# Altium footprint library aPassive.PcbLib: 212 footprints (part 6 of 14)
Each footprint in its own frame and in the unit in brackets; x right, y up, seen from the top. Pads: shape width x height; smd on the part's side, far side on the other; paste and mask are expansions set on the pad; w line width, h text height; cw(c..) or ccw(c..) is an arc to the next point about the centre after c.
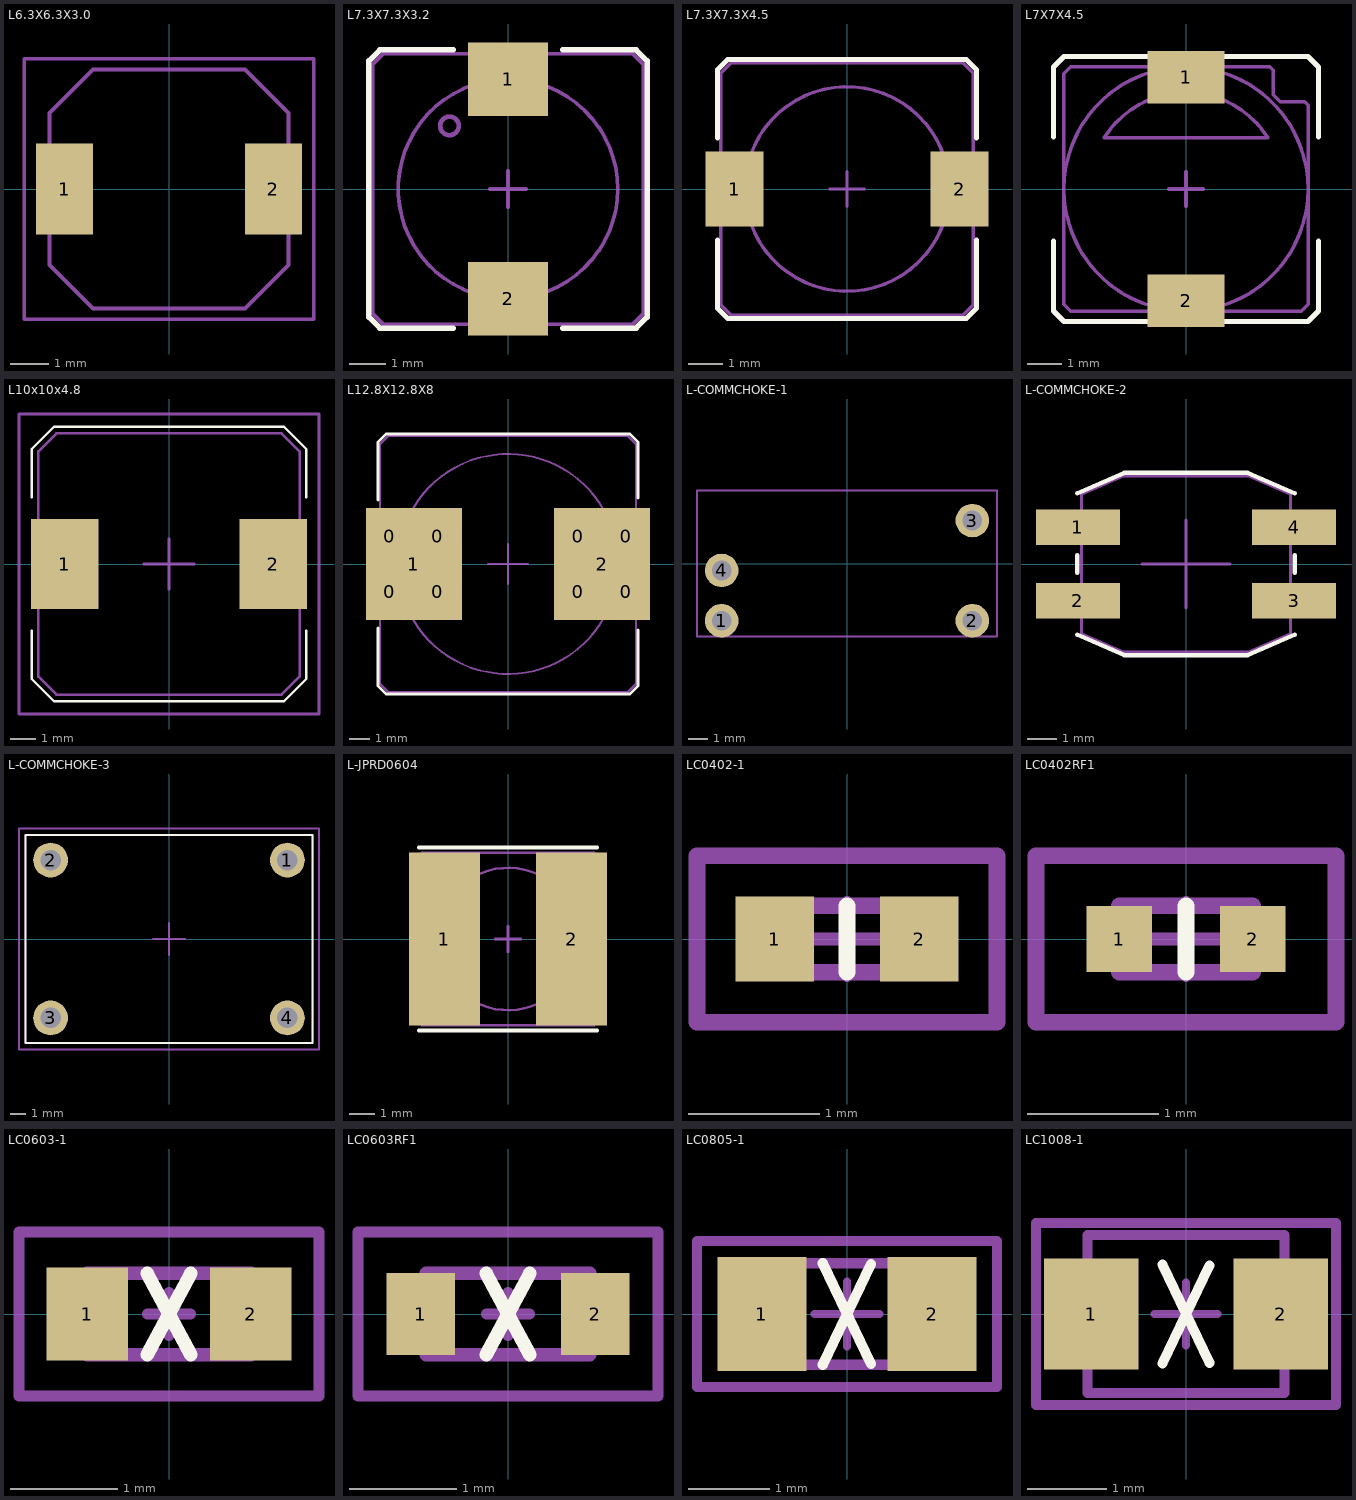
[diagram p5: the footprints below, top view; thin cyan lines are the x and y axes]

## L6.3X6.3X3.0 [mm] "SMD inductor 6.3x6.3x3.0mm shielded"
height 3
pads (2):
  rect 1.5x2.4 smd: 1(-2.75,0) 2(2.75,0)
Mechanical 13:
  lines w0.102: -3.15,-2 -3.15,2 -2,3.15 2,3.15 3.15,2 3.15,-2 2,-3.15 -2,-3.15 -3.15,-2
Mechanical 15:
  lines w0.102: -3.81,-3.429 -3.81,3.429 3.81,3.429 3.81,-3.429 -3.81,-3.429
3D body: height 2.8, standoff 0, extent -3.15,-3.15 3.15,3.15
3D body: height 3, standoff 2.8, extent -2.159,-2.159 2.224,2.232

## L7.3X7.3X3.2 [mm] "SMD inductor 7.3x7.3x3.2mm shielded"
height 3.2
pads (2):
  rect 2.2x2 smd: 1(0,3) 2(0,-3)
Top Overlay:
  lines w0.15: -1.5,-3.8 -3.5,-3.8 -3.8,-3.5 -3.8,3.5 -3.5,3.8 -1.5,3.8 ; 1.5,-3.8 3.5,-3.8 3.8,-3.5 3.8,3.5 3.5,3.8 1.5,3.8
Mechanical 13:
  circle w0.127: c-1.6,1.725 r0.254
  circle w0.1: c0,0 r3
  lines w0.102: -3.7,-3.4 -3.4,-3.7 3.4,-3.7 3.7,-3.4 3.7,3.4 3.4,3.7 -3.4,3.7 -3.7,3.4 -3.7,-3.4
Mechanical 15:
  lines w0.102: -0.5,0 0.5,0 ; 0,-0.5 0,0.5
3D body: height 3.35, standoff 3.3, extent -1.859,1.468 -1.341,1.986
3D body: height 3.3, standoff 3.2, extent -3.009,-3.009 3.009,3.009
3D body: height 3.2, standoff 0, extent -3.7,-3.7 3.7,3.7

## L7.3X7.3X4.5 [mm] "SMD inductor 7.3x7.3x4.5mm shielded"
height 4.5
pads (2):
  rect 1.7x2.2 smd: 1(-3.3,0) 2(3.3,0)
Top Overlay:
  lines w0.15: -3.8,-1.5 -3.8,-3.5 -3.5,-3.8 3.5,-3.8 3.8,-3.5 3.8,-1.5 ; -3.8,1.5 -3.8,3.5 -3.5,3.8 3.5,3.8 3.8,3.5 3.8,1.5
Mechanical 13:
  circle w0.1: c0,0 r3
  lines w0.102: -3.7,-3.4 -3.7,3.4 -3.4,3.7 3.4,3.7 3.7,3.4 3.7,-3.4 3.4,-3.7 -3.4,-3.7 -3.7,-3.4
Mechanical 15:
  lines w0.102: -0.5,0 0.5,0 ; 0,-0.5 0,0.5
3D body: height 4.5, standoff 0, extent -3.7,-3.7 3.7,3.7

## L7X7X4.5 [mm] "SMD inductor 7x7x4.5mm shielded"
height 4.5
pads (2):
  rect 2.2x1.5 smd: 1(0,3.2) 2(0,-3.2)
Top Overlay:
  lines w0.15: -3.8,-1.5 -3.8,-3.5 -3.5,-3.8 3.5,-3.8 3.8,-3.5 3.8,-1.5 ; -3.8,1.5 -3.8,3.5 -3.5,3.8 3.5,3.8 3.8,3.5 3.8,1.5
Mechanical 13:
  circle w0.1: c0,0 r3.5
  lines w0.102: -3.5,-3.3 -3.5,3.3 -3.3,3.5 2.4,3.5 2.5,3.4 2.5,2.7 2.7,2.5 3.4,2.5 3.5,2.4 3.5,-3.3 3.3,-3.5 -3.3,-3.5 -3.5,-3.3 ; -2.345,1.466 cw(c0,0) 2.345,1.466 -2.345,1.466
Mechanical 15:
  lines w0.102: -0.5,0 0.5,0 ; 0,-0.5 0,0.5
3D body: height 1, standoff 0.5, extent 2.176,-3.217 3.222,-2.183
3D body: height 1, standoff 0.5, extent -3.222,2.183 -2.176,3.217
3D body: height 4.6, standoff 4.5, extent -2.345,1.466 2.345,2.775
3D body: height 0.5, standoff 0, extent -3.5,-3.5 3.5,3.5
3D body: height 4.5, standoff 0.5, extent -3.511,-3.511 3.511,3.511

## L10x10x4.8 [mm] "Power inductor 10x10x4.8mm EPCOS"
height 4.8
pads (2):
  rect 2.7x3.6 smd: 1(-4.15,0) 2(4.15,0)
Top Overlay:
  lines w0.102: -5.461,-2.667 -5.461,-4.572 -4.572,-5.461 4.572,-5.461 5.461,-4.572 5.461,-2.667 ; -5.461,2.667 -5.461,4.572 -4.572,5.461 4.572,5.461 5.461,4.572 5.461,2.667
Mechanical 13:
  lines w0.102: -5.2,-4.474 -5.2,-4.477 ; -5.2,-4.477 -4.477,-5.2 4.474,-5.2 4.477,-5.2 5.2,-4.477 5.2,4.474 5.2,4.477 4.477,5.2 -4.474,5.2 -4.477,5.2 -5.2,4.477 -5.2,-4.477
Mechanical 15:
  lines w0.102: -1,0 1,0 ; 0,-1 0,1 ; -5.969,-5.969 5.969,-5.969 5.969,5.969 -5.969,5.969 -5.969,-5.969
3D body: height 4.7, standoff 0, extent -5.2,-5.2 5.2,5.2
3D body: height 4.8, standoff 4.7, extent -3.822,-3.822 3.822,3.822

## L12.8X12.8X8 [mm] "Power inductor 12.8x12.8x8mm EPCOS"
height 8
pads (10):
  rect 2x2.35 on Top Paste: 0(-5.9,-1.4) 0(-5.9,1.4) 0(-3.5,-1.4) 0(-3.5,1.4) 0(3.5,-1.4) 0(3.5,1.4) 0(5.9,-1.4) 0(5.9,1.4)
  rect 4.8x5.6 smd paste-2.54: 1(-4.7,0) 2(4.7,0)
Top Overlay:
  lines w0.15: -6.5,-3.2 -6.5,-6.1 -6.1,-6.5 6.1,-6.5 6.5,-6.1 6.5,-3.3 ; -6.5,3.2 -6.5,6.1 -6.1,6.5 6.1,6.5 6.5,6.1 6.5,3.3
Mechanical 13:
  circle w0.1: c0,0 r5.5
  lines w0.102: -6.4,-6 -6.4,6 -6,6.4 6,6.4 6.4,6 6.4,-6 6,-6.4 -6,-6.4 -6.4,-6
Mechanical 15:
  lines w0.102: -1,0 1,0 ; 0,-1 0,1
3D body: height 8.01, standoff 0, extent -5.512,-5.512 5.512,5.512
3D body: height 8, standoff 0, extent -6.4,-6.4 6.4,6.4

## L-COMMCHOKE-1 [mm] "common mode choke"
height 17.6
pads (4):
  round 1.7 hole 1: 1(-6.35,-2.9) 2(6.35,-2.9) 3(6.35,2.175) 4(-6.35,-0.35)
Mechanical 13:
  lines w0.102: -7.6,-3.7 7.6,-3.7 7.6,3.7 -7.6,3.7 -7.6,-3.7
3D body: height 17.6, standoff 0, extent -7.6,-3.7 7.6,3.7

## L-COMMCHOKE-2 [mm]
pads (4):
  rect 2.85x1.2 smd: 1(-3.675,1.25) 2(-3.675,-1.25) 3(3.675,-1.25) 4(3.675,1.25)
Top Overlay:
  lines w0.15: -3.7,-2.4 -2.1,-3.1 2.1,-3.1 3.7,-2.4 ; -3.7,-0.3 -3.7,0.3 ; -3.7,2.4 -2.1,3.1 2.1,3.1 3.7,2.4 ; 3.7,-0.3 3.7,0.3
Mechanical 13:
  lines w0.102: -3.55,-1.55 -4.5,-1.55 -4.5,-0.95 -3.55,-0.95 ; -3.55,0.95 -4.5,0.95 -4.5,1.55 -3.55,1.55 ; 3.55,-1.55 4.5,-1.55 4.5,-0.95 3.55,-0.95 ; 3.55,0.95 4.5,0.95 4.5,1.55 3.55,1.55 ; -3.55,-2.379 -3.55,2.379 -2.1,3 2.1,3 3.55,2.379 3.55,-2.379 2.1,-3 -2.1,-3 -3.55,-2.379
Mechanical 15:
  lines w0.102: -1.5,0 1.5,0 ; 0,-1.5 0,1.5
3D body: height 0.3, standoff 0, extent -4.5,-1.55 -3,-0.95
3D body: height 0.3, standoff 0, extent 3,-1.55 4.5,-0.95
3D body: height 0.3, standoff 0, extent 3,0.95 4.5,1.55
3D body: height 0.3, standoff 0, extent -4.5,0.95 -3,1.55
3D body: height 5.2, standoff 0.3, extent -3.55,-3 3.55,3

## L-COMMCHOKE-3 [mm] "common mode choke 18.2x13.2x20.3mm"
height 20.3
pads (4):
  round 2.2 hole 1.3: 1(7.5,5) 2(-7.5,5) 3(-7.5,-5) 4(7.5,-5)
Top Overlay:
  lines w0.127: -9.1,-6.6 -9.1,6.6 9.1,6.6 9.1,-6.6 -9.1,-6.6
Mechanical 13:
  lines w0.102: -9.1,-6.6 -9.1,6.6 9.1,6.6 9.1,-6.6 -9.1,-6.6
Mechanical 15:
  lines w0.127: -1,0 1,0 ; 0,-1 0,1 ; -9.5,-7 9.5,-7 9.5,7 -9.5,7 -9.5,-7
3D body: height 2.2, standoff 0, extent -3.7,-5 3.7,4.7
3D body: height 2.2, standoff 0, extent -8.307,-5.807 -6.693,-4.193
3D body: height 2.2, standoff 0, extent -8.307,4.193 -6.693,5.807
3D body: height 2.2, standoff 0, extent 6.693,4.193 8.307,5.807
3D body: height 2.2, standoff 0, extent 6.693,-5.807 8.307,-4.193
3D body: height 0, standoff -3.5, extent -8.01,-5.51 -6.99,-4.49
3D body: height 0, standoff -3.5, extent 6.99,-5.51 8.01,-4.49
3D body: height 0, standoff -3.5, extent 6.99,4.49 8.01,5.51
3D body: height 0, standoff -3.5, extent -8.01,4.49 -6.99,5.51
3D body: height 20.3, standoff 14.8, extent -6.3,-5 6.3,4.7
3D body: height 14.8, standoff 2.2, extent -8.8,-5 8.8,4.7
3D body: height 7, standoff 2.2, extent 5.993,-6.507 9.007,-3.493
3D body: height 7, standoff 2.2, extent -9.007,-6.507 -5.993,-3.493
3D body: height 7, standoff 2.2, extent 5.993,3.493 9.007,6.507
3D body: height 7, standoff 2.2, extent -9.007,3.493 -5.993,6.507

## L-JPRD0604 [mm] "SMD inductor 6.7x6.7x4mm shielded"
height 4.5
pads (2):
  rect 2.8x6.8 smd: 1(-2.5,0) 2(2.5,0)
Top Overlay:
  lines w0.15: -3.5,-3.6 3.5,-3.6 ; -3.5,3.6 3.5,3.6
Mechanical 13:
  circle w0.1: c0,0 r2.8
  lines w0.102: -3.4,-3.4 3.4,-3.4 3.4,3.4 -3.4,3.4 -3.4,-3.4
Mechanical 15:
  lines w0.102: -0.5,0 0.5,0 ; 0,-0.5 0,0.5
3D body: height 4.5, standoff 0, extent -3.4,-3.4 3.4,3.4

## LC0402-1 [mm] "Chip inductor 0402"
height 1.5
pads (2):
  rect 0.6x0.65 smd: 1(-0.55,0) 2(0.55,0)
Top Overlay:
  lines w0.127: 0,-0.254 0,0.254
Mechanical 13:
  lines w0.127: -0.508,-0.254 0.508,-0.254 0.508,0.254 -0.508,0.254 -0.508,-0.254
Mechanical 15:
  lines w0.102: -0.3,0 0.3,0 ; 0,-0.275 0,0.275
  lines w0.127: -1.143,-0.635 -1.143,0.635 1.143,0.635 1.143,-0.635 -1.143,-0.635
3D body: height 0.4, standoff 0, extent -0.508,-0.254 0.508,0.254

## LC0402RF1 [mm] "Chip inductor 0402 RF pad"
height 1.5
pads (2):
  rect 0.5x0.5 smd: 1(-0.508,0) 2(0.508,0)
Top Overlay:
  lines w0.127: 0,-0.254 0,0.254
Mechanical 13:
  lines w0.127: -0.508,-0.254 0.508,-0.254 0.508,0.254 -0.508,0.254 -0.508,-0.254
Mechanical 15:
  lines w0.102: -0.3,0 0.3,0 ; 0,-0.275 0,0.275
  lines w0.127: -1.143,-0.635 -1.143,0.635 1.143,0.635 1.143,-0.635 -1.143,-0.635
3D body: height 0.5, standoff 0, extent -0.3,-0.254 0.3,0.254
3D body: height 0.5, standoff 0, extent 0.3,-0.254 0.508,0.254
3D body: height 0.5, standoff 0, extent -0.508,-0.254 -0.3,0.254

## LC0603-1 [mil] "Chip  inductor  0603 (1608)"
height 59.06
pads (2):
  rect 30x34 smd: 1(-30,0) 2(30,0)
Top Overlay:
  lines w5: -8,-15 8,15 ; -8,15 8,-15
Mechanical 13:
  lines w5: -30,-15 -30,15 30,15 30,-15 -30,-15
Mechanical 15:
  lines w3.94: -7.87,0 7.87,0 ; 0,-7.87 0,7.87
  lines w4: -55,-30 -55,30 55,30 55,-30 -55,-30
3D body: height 27.56, standoff 0, extent -30,-15 -20,15
3D body: height 27.56, standoff 0, extent 20,-15 30,15
3D body: height 27.56, standoff 0, extent -20,-15 20,15

## LC0603RF1 [mil] "Chip  inductor  0603 RF pad"
height 59.06
pads (2):
  rect 25x30 smd: 1(-32,0) 2(32,0)
Top Overlay:
  lines w5: -8,-15 8,15 ; -8,15 8,-15
Mechanical 13:
  lines w5: -30,-15 30,-15 30,15 -30,15 -30,-15
Mechanical 15:
  lines w3.94: -7.87,0 7.87,0 ; 0,-7.87 0,7.87
  lines w4: -55,-30 55,-30 55,30 -55,30 -55,-30
3D body: height 27.56, standoff 0, extent -30,-15 -20,15
3D body: height 27.56, standoff 0, extent 20,-15 30,15
3D body: height 27.56, standoff 0, extent -20,-15 20,15

## LC0805-1 [mm] "Chip inductor  0805"
height 1.8
pads (2):
  rect 1.1x1.4 smd: 1(-1.05,0) 2(1.05,0)
Top Overlay:
  lines w0.127: -0.3,-0.625 0.296,0.616 ; -0.3,0.625 0.296,-0.618
Mechanical 13:
  lines w0.127: -1,-0.625 -1,0.625 1,0.625 1,-0.625 -1,-0.625
Mechanical 15:
  lines w0.102: -0.4,0 0.4,0 ; 0,-0.4 0,0.4
  lines w0.127: -1.85,-0.9 -1.85,0.9 1.85,0.9 1.85,-0.9 -1.85,-0.9
3D body: height 1.35, standoff 0, extent 0.673,-0.625 1,0.625
3D body: height 1.35, standoff 0, extent -0.673,-0.625 0.673,0.625
3D body: height 1.35, standoff 0, extent -1,-0.625 -0.673,0.625

## LC1008-1 [mm] "Chip inductor  1008"
height 2
pads (2):
  rect 1.2x1.4 smd: 1(-1.2,0) 2(1.2,0)
Top Overlay:
  lines w0.127: -0.3,-0.625 0.296,0.616 ; -0.3,0.625 0.296,-0.618
Mechanical 13:
  lines w0.127: -1.25,-1 1.25,-1 1.25,1 -1.25,1 -1.25,-1
Mechanical 15:
  lines w0.102: -0.4,0 0.4,0 ; 0,-0.4 0,0.4
  lines w0.127: -1.9,-1.15 -1.9,1.15 1.9,1.15 1.9,-1.15 -1.9,-1.15
3D body: height 1.35, standoff 0, extent -1.25,-1 1.25,1